# Altium schematic symbol library CAP 2.2uF 50V.Schlib: 1 symbol
Pins are listed as number, name and electrical type; pins without a type are passive.

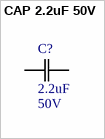
[diagram p0: symbol CAP 2.2uF 50V]

## CAP 2.2uF 50V
designator C?, comment Rating: 50V  (hidden comment: 2.2uF)
CAP CER 2.2UF 50V X5R 0603/0805; Tolerance: 10%; Temperature Coefficient: 5; Package: 0603/0805; Operating Temperature: -55°C ~ 125°C; Value: 2.2uF
footprint 0603
footprint 0805
pins: 1 C1, 2 C2